# Altium schematic symbol library Schlib1.SchLib: 16 symbols
Pins are listed as number, name and electrical type; pins without a type are passive.

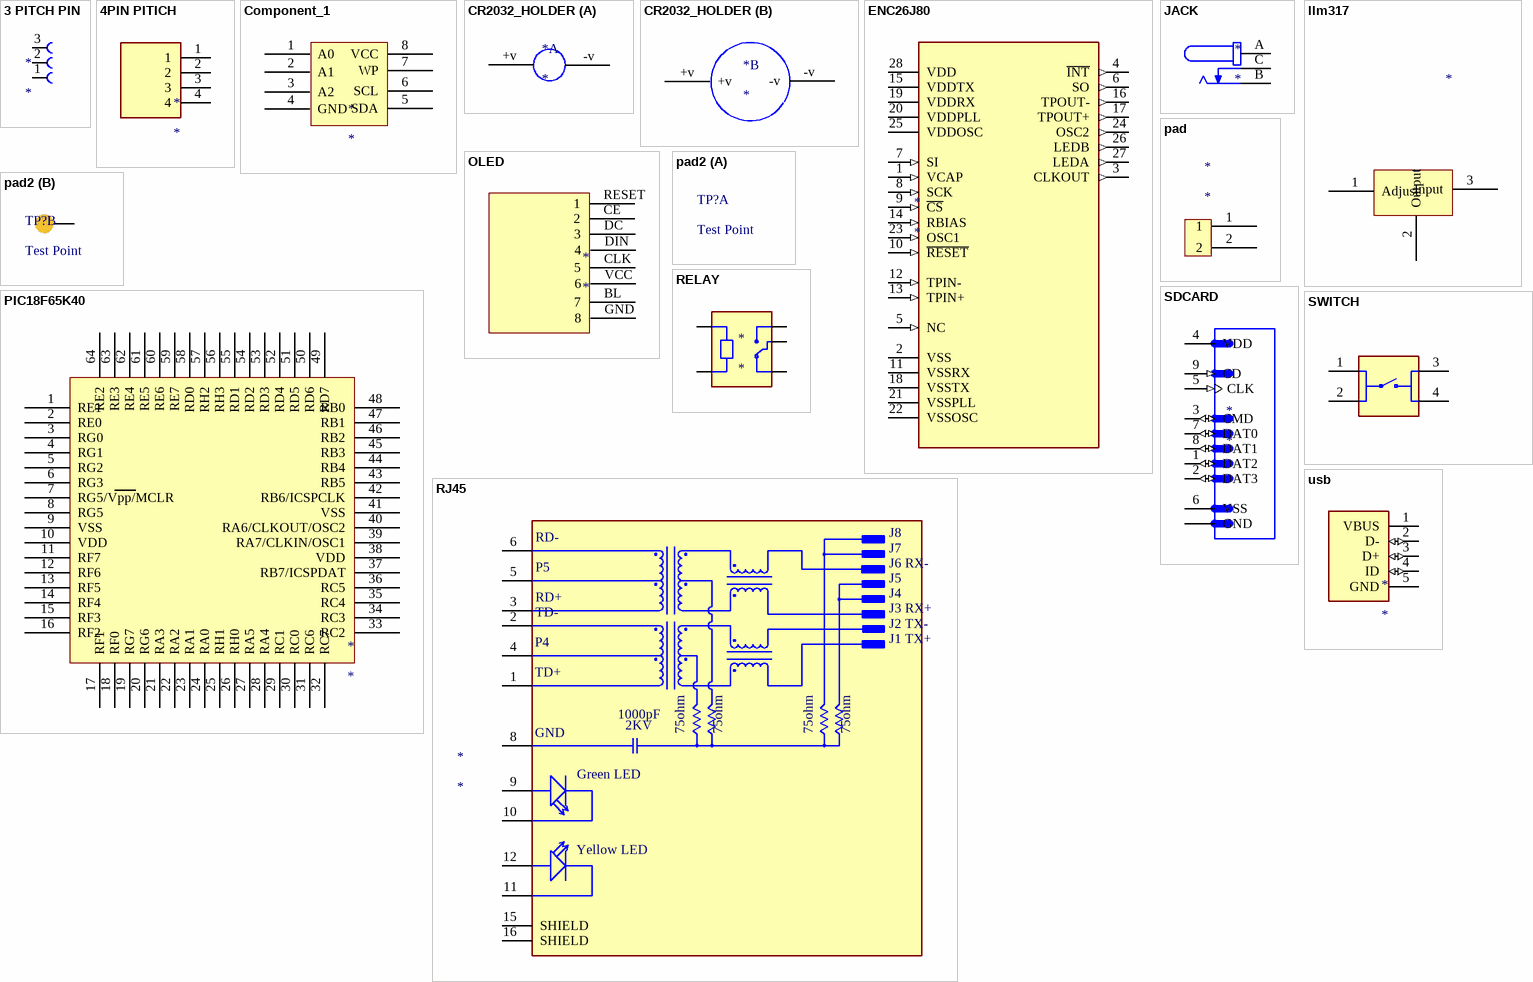
[diagram p0: symbols 3 PITCH PIN to usb]

## 3 PITCH PIN
designator *
footprint 3 PITCH PIN
pins: 1 3, 2, 3 1

## 4PIN PITICH
designator *
pins: 1, 2, 3, 4

## Component_1
designator *
pins: 1 A0, 2 A1, 3 A2, 4 GND, 5 SDA, 6 SCL, 7 WP, 8 VCC

## CR2032_HOLDER
designator *
part A pins: +v, -v 16
part B pins: +v, -v

## ENC26J80
designator *
pins: 1 VCAP (in), 2 VSS (power), 3 CLKOUT (out), 4 ~{INT} (out), 5 NC (in), 6 SO (out), 7 SI (in), 8 SCK (in), 9 ~{CS} (in), 10 ~{RESET} (in), 11 VSSRX (power), 12 TPIN- (in), 13 TPIN+ (in), 14 RBIAS (in), 15 VDDTX (power), 16 TPOUT- (out), 17 TPOUT+ (out), 18 VSSTX (power), 19 VDDRX (power), 20 VDDPLL (power), 21 VSSPLL (power), 22 VSSOSC (power), 23 OSC1 (in), 24 OSC2 (out), 25 VDDOSC (power), 26 LEDB (out), 27 LEDA (out), 28 VDD (power)

## JACK
designator *
pins: A, B, C

## llm317
designator ?
pins: 1 Adjust, 2 Output, 3 Input

## OLED
designator *
footprint OLED
pins: BL 7, CE 2, CLK 5, DC 3, DIN 4, GND 8, RESET 1, VCC 6

## pad
designator *
pins: 1, 2

## pad2
designator TP?, comment Test Point
Top Testpoint Pad
footprint pad2
part B pins: 1

## PIC18F65K40
designator *
pins: 1 RE1, 2 RE0, 3 RG0, 4 RG1, 5 RG2, 6 RG3, 7 RG5/Vpp/MCLR, 8 RG5, 9 VSS, 10 VDD, 11 RF7, 12 RF6, 13 RF5, 14 RF4, 15 RF3, 16 RF2, 17 RF1, 18 RF0, 19 RG7, 20 RG6, 21 RA3, 22 RA2, 23 RA1, 24 RA0, 25 RH1, 26 RH0, 27 RA5, 28 RA4, 29 RC1, 30 RC0, 31 RC6, 32 RC7, 33 RC2, 34 RC3, 35 RC4, 36 RC5, 37 RB7/ICSPDAT, 38 VDD, 39 RA7/CLKIN/OSC1, 40 RA6/CLKOUT/OSC2, 41 VSS, 42 RB6/ICSPCLK, 43 RB5, 44 RB4, 45 RB3, 46 RB2, 47 RB1, 48 RB0, 49 RD7, 50 RD6, 51 RD5, 52 RD4, 53 RD3, 54 RD2, 55 RD1, 56 RH3, 57 RH2, 58 RD0, 59 RE7, 60 RE6, 61 RE5, 62 RE4, 63 RE3, 64 RE2

## RELAY
designator *
footprint RELAY
footprint RELAY
pins: A1, A2, COM, NC, NO

## RJ45
designator *
footprint RJ45
pins: 1 TD+, 2 TD-, 3 RD+, 4 P4, 5 P5, 6 RD-, 8 GND (power), 9 GA, 10 GC, 11 YC, 12 YA, 15 SHIELD, 16 SHIELD
text: J8; J7; J6 RX-; J5; J4; J3 RX+; J2 TX-; J1 TX+; 1000pF; 2KV; 75ohm; Green LED; Yellow LED

## SDCARD
designator *
footprint SD CD
pins: 1 DAT2 (io), 2 DAT3 (io), 3 CMD (io), 4 VDD (power), 5 CLK (in), 6 VSS, 7 DAT0 (io), 8 DAT1 (io), 9 CD (in), G1 GND, G2 GND, G3 GND, G4 GND

## SWITCH
designator *
footprint SWITCH
pins: 1, 2, 3, 4

## usb
designator *
footprint usb
pins: 1 VBUS (power), 2 D- (io), 3 D+ (io), 4 ID (io), 5 GND (power)